# Altium footprint library CONN-TH_2P-P2.50_HCTL_XH-2A-X.PcbLib: 1 footprints
Each footprint in its own frame and in the unit in brackets; x right, y up, seen from the top. Pads: shape width x height; smd on the part's side, far side on the other; paste and mask are expansions set on the pad; w line width, h text height; cw(c..) or ccw(c..) is an arc to the next point about the centre after c.
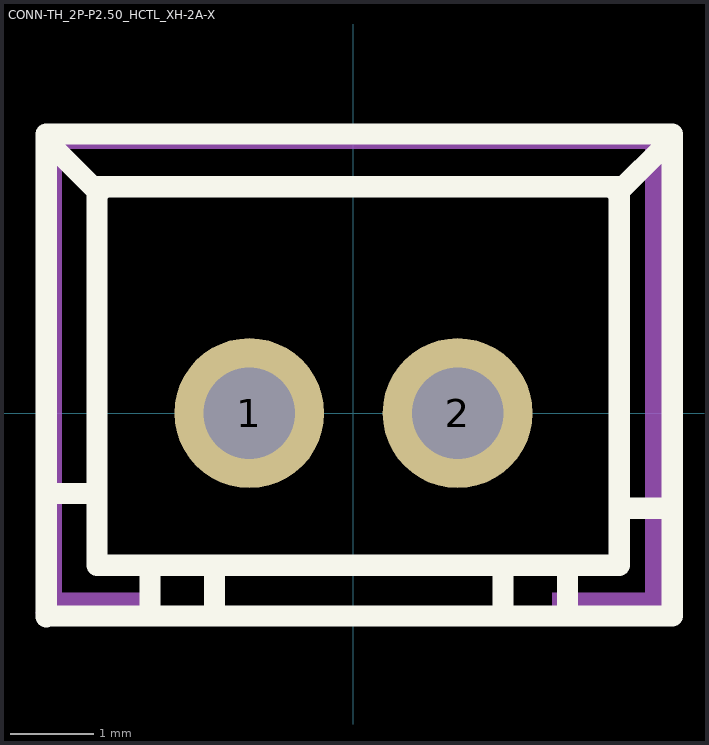
[diagram p0: the footprint, top view; thin cyan lines are the x and y axes]

## CONN-TH_2P-P2.50_HCTL_XH-2A-X [mm]
pads (2):
  round 1.8 / inner round 1.524 / far side round 1.524 hole 1.1: 1(-1.251,0) 2(1.251,0)
Top Overlay:
  lines w0.254: -3.689,-2.447 -3.689,3.353 3.811,3.353 ; -3.689,-0.965 -3.105,-0.965 ; -3.671,-2.438 3.829,-2.438 3.829,3.353 ; -3.664,3.327 -3.664,3.251 -3.054,2.642 ; -3.08,2.718 3.194,2.718 3.194,-1.829 -3.08,-1.829 -3.08,2.692 -3.054,2.692 ; -2.445,-2.413 -2.445,-1.829 ; -1.67,-2.426 -1.67,-1.841 ; 1.797,-2.413 1.797,-1.829 ; 2.572,-2.426 2.572,-1.841 ; 3.169,2.642 3.778,3.251 3.778,3.327 ; 3.219,-1.143 3.804,-1.143
Mechanical 6:
  region: -2.489,-2.388 -3.759,-2.388 -3.759,3.404 3.759,3.404 3.759,-2.413 2.388,-2.413 2.388,-2.159 3.505,-2.159 3.505,3.175 -3.505,3.175 -3.505,-2.159 -2.489,-2.159
Mechanical 15:
  region: -3.685,-2.4 -3.704,-2.354 -3.75,-2.335 -3.796,-2.354 -3.815,-2.4 -3.796,-2.446 -3.75,-2.465 -3.704,-2.446 -3.685,-2.4
  region: -1.571,0.32 -0.931,0.32 -0.931,-0.32 -1.571,-0.32
  region: 0.931,0.32 1.571,0.32 1.571,-0.32 0.931,-0.32
  lines w0.051: -3.75,-2.4 3.75,-2.4 3.75,3.4 -3.75,3.4 -3.75,-2.4